# Altium schematic symbol library Nixie_Clock.SCHLIB: 12 symbols
Pins are listed as number, name and electrical type; pins without a type are passive.

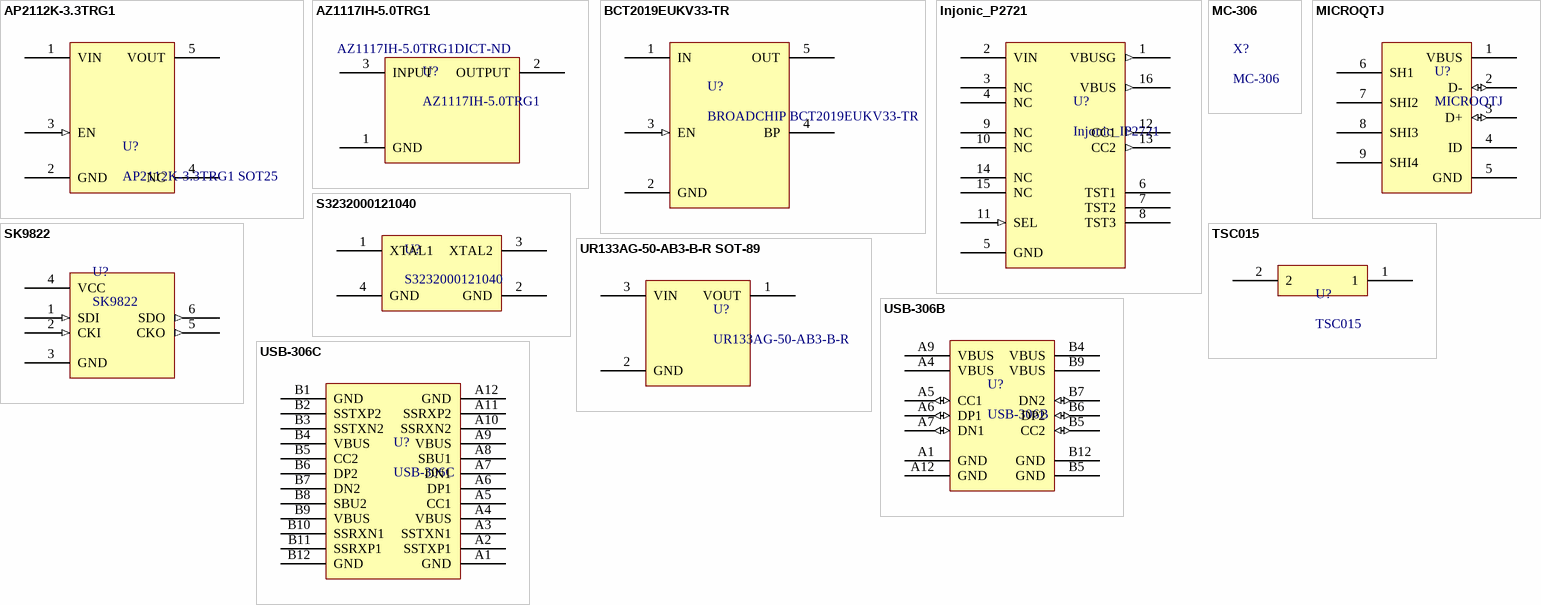
[diagram p0: symbols AP2112K-3.3TRG1 to USB-306C]

## AP2112K-3.3TRG1
designator U?, comment AP2112K-3.3TRG1 SOT25
5V-3.3V Voltage Regulator
pins: 1 VIN (power), 2 GND (power), 3 EN (in), 4 NC, 5 VOUT (power)

## AZ1117IH-5.0TRG1
designator U?  Supplier Part Number 1: AZ1117IH-5.0TRG1DICT-ND
12V-5V Voltage Regulator; Supplier 1: Digi-Key
pins: 1 GND (power), 2 OUTPUT (power), 3 INPUT (power)

## BCT2019EUKV33-TR
designator U?, comment BROADCHIP BCT2019EUKV33-TR
5V-3.3V Voltage Regulator
footprint SOT95P290X115-5N (SOT23, 5-Leads, Body 2.92x2.90mm, Pitch 0.95mm, IPC Medium Density)
pins: 1 IN (power), 2 GND (power), 3 EN (in), 4 BP, 5 OUT (power)

## Injonic_P2721
designator U?, comment Injonic_IP2721
USB-C Controller
footprint TSOP65P640X120-16N (TSOP, 16-Leads, Body 4.96x4.40mm, Pitch 0.65mm, IPC Medium Density)
pins: 1 VBUSG (out), 2 VIN (power), 3 NC, 4 NC, 5 GND (power), 6 TST1, 7 TST2, 8 TST3, 9 NC, 10 NC, 11 SEL (in), 12 CC1 (out), 13 CC2 (out), 14 NC, 15 NC, 16 VBUS (out)

## MC-306
designator X?
Crystal Oscillator 32.7680kHz

## MICROQTJ
designator U?
*FOOTPRINT INCOMPLETE* Micro USB 2.0 5 pins SHOU HAN
footprint MICROQTJ (Micro USB 2.0 Connector)
pins: 1 VBUS (power), 2 D- (io), 3 D+ (io), 4 ID, 5 GND (power), 6 SH1 (power), 7 SHI2 (power), 8 SHI3 (power), 9 SHI4 (power)

## S3232000121040
designator U?
32MHz SMD Crystal Resonator
footprint SMD3225 (32 MHz SMD Crystal Resonator)
pins: 1 XTAL1, 2 GND (power), 3 XTAL2, 4 GND (power)

## SK9822
designator U?
CHIP-ON-TOP SMD TYPE LED
pins: 1 SDI (in), 2 CKI (in), 3 GND (power), 4 VCC (power), 5 CKO (out), 6 SDO (out)

## TSC015
designator U?
Tactile Switch
footprint TSC015 (Tactile Switch)
pins: 1, 2 (power)

## UR133AG-50-AB3-B-R SOT-89
designator U?, comment UR133AG-50-AB3-B-R
12V-5V Voltage Regulator
footprint SOT89-150P415X160-3N (SOT89, 3-Leads, Body 4.50x2.45mm, Pitch 1.50mm, Lead Span 4.2mm, IPC Medium Density)
pins: 1 VOUT (power), 2 GND (power), 3 VIN (power)

## USB-306B
designator U?
USB-C female connector 7 pins
footprint USB-306B (USB-C female connector 14 pins)
pins: A1 GND (power), A4 VBUS (power), A5 CC1 (io), A6 DP1 (io), A7 DN1 (io), A9 VBUS (power), A12 GND (power), B4 VBUS (power), B5 CC2 (io), B5 GND (power), B6 DP2 (io), B7 DN2 (io), B9 VBUS (power), B12 GND (power)

## USB-306C
designator U?
USB C HOOYAH
pins: A1 GND (power), A2 SSTXP1 (power), A3 SSTXN1 (power), A4 VBUS (power), A5 CC1 (power), A6 DP1 (power), A7 DN1 (power), A8 SBU1 (power), A9 VBUS (power), A10 SSRXN2 (power), A11 SSRXP2 (power), A12 GND (power), B1 GND (power), B2 SSTXP2 (power), B3 SSTXN2 (power), B4 VBUS (power), B5 CC2 (power), B6 DP2 (power), B7 DN2 (power), B8 SBU2 (power), B9 VBUS (power), B10 SSRXN1 (power), B11 SSRXP1 (power), B12 GND (power)